# Altium footprint library PCB封装.PcbLib: 60 footprints (part 4 of 4)
Each footprint in its own frame and in the unit in brackets; x right, y up, seen from the top. Pads: shape width x height; smd on the part's side, far side on the other; paste and mask are expansions set on the pad; w line width, h text height; cw(c..) or ccw(c..) is an arc to the next point about the centre after c.
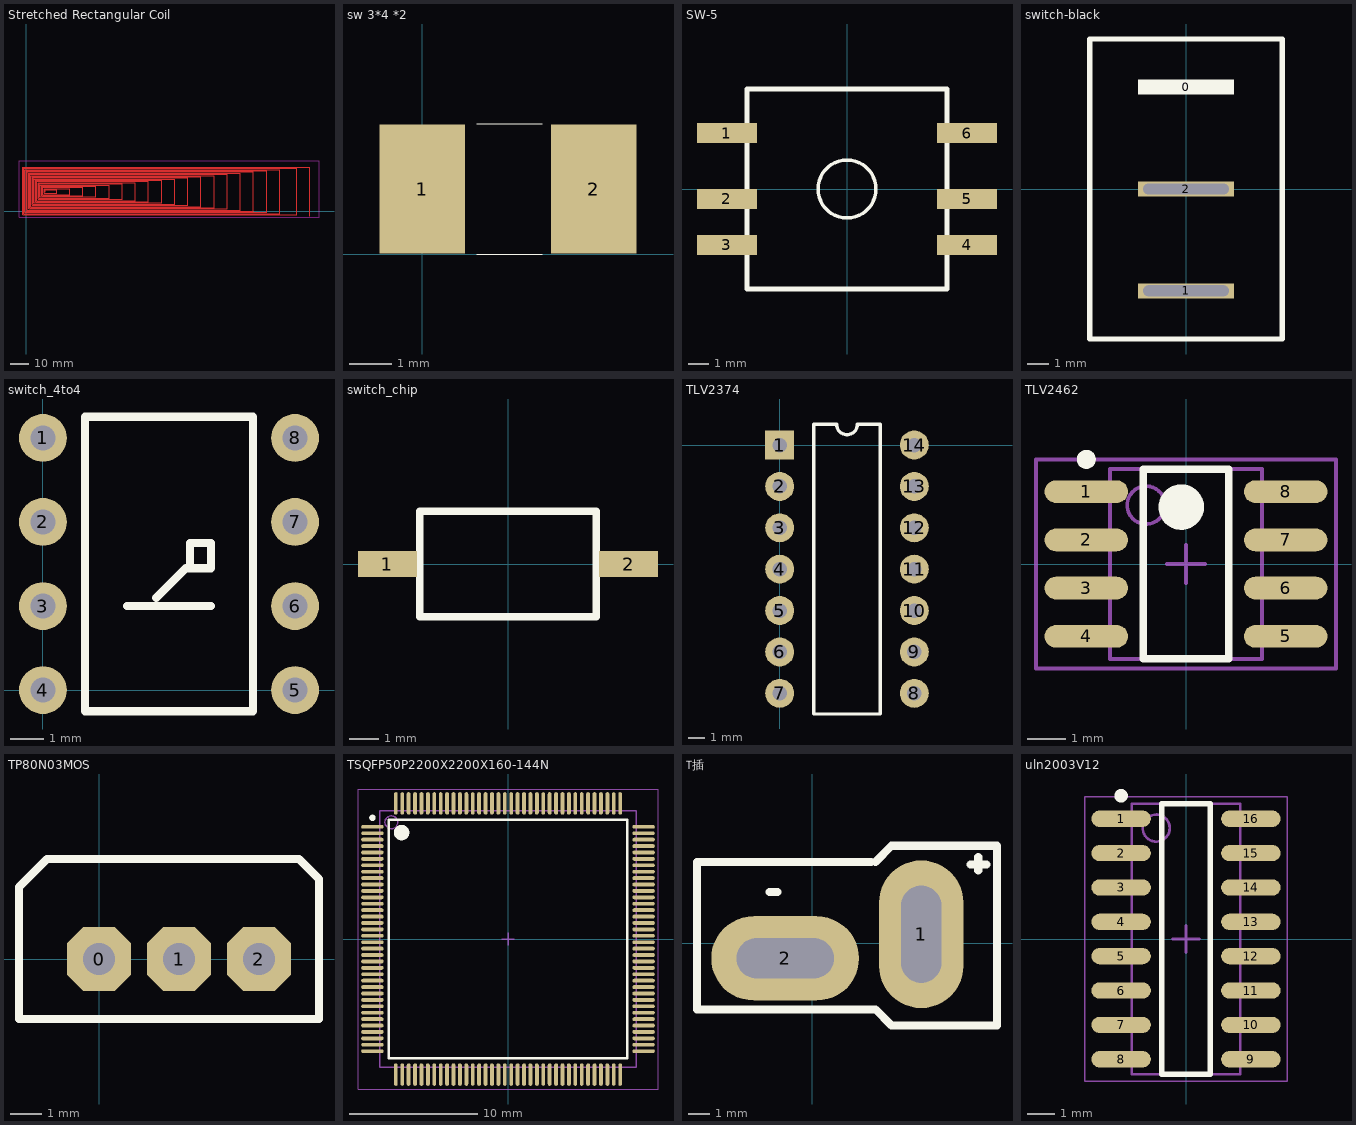
[diagram p3: the footprints below, top view; thin cyan lines are the x and y axes]

## Stretched Rectangular Coil [mm]
height 1.6
Top Layer:
  lines w0.381: 10.033,10.16 10.033,11.43 16.063,11.43 16.063,9.525 9.398,9.525 9.398,12.065 23.063,12.065 23.063,8.89 8.763,8.89 8.763,12.7 30.063,12.7 30.063,8.255 8.128,8.255 8.128,13.335 37.063,13.335 37.063,7.62 7.493,7.62 7.493,13.97 44.063,13.97 44.063,6.985 6.858,6.985 6.858,14.605 51.054,14.605 51.054,6.35 6.223,6.35 6.223,15.24 58.063,15.24 58.063,5.715 5.588,5.715 5.588,15.875 65.063,15.875 65.063,5.08 4.953,5.08 4.953,16.51 72.063,16.51 72.063,4.445 4.318,4.445 4.318,17.145 79.063,17.145 79.063,3.81 3.683,3.81 3.683,17.78 86.063,17.78 86.063,3.175 3.048,3.175 3.048,18.415 93.063,18.415 93.063,2.54 2.413,2.54 2.413,19.05 100.063,19.05 100.063,1.905 1.778,1.905 1.778,19.685 107.061,19.685 107.061,1.27 1.143,1.27 1.143,20.32 114.063,20.32 114.063,0.635 0.508,0.635 0.508,20.955 121.063,20.955 121.063,0 -0.127,0 -0.127,21.59 128.063,21.59 128.063,-0.635 -0.762,-0.635 -0.762,22.225 135.063,22.225 135.063,-1.27 -1.397,-1.27 -1.397,22.86 144.063,22.86 144.063,-1.905 -2.032,-1.905 -2.032,23.495 151.063,23.495 151.063,-2.667
Keep-Out Layer:
  lines w0.381: -3.937,26.825 -3.937,-3.175 156.063,-3.175 156.063,26.924 -3.937,26.924

## sw 3*4 *2 [mm]
height 2
pads (2):
  rect 2x3 smd: 1(0,1.524) 2(4,1.524)
Top Overlay:
  lines w0.025: 1.27,0 2.794,0 ; 1.27,3.048 2.794,3.048

## SW-5 [mm]
height 8
pads (6):
  rect 3x1 smd: 1(-6,2.8) 2(-6,-0.5) 3(-6,-2.8) 4(6,-2.8) 5(6,-0.5) 6(6,2.8)
Top Overlay:
  circle w0.178: c0,0 r1.448
  lines w0.254: -5,-5 -5,5 5,5 5,-5 -5,-5

## switch-black [mm]
height 20
pads (3):
  rect 4.5x0.7 on Top Overlay: 0(0,4.75)
  rect 4.5x0.7 hole 0.5 slot 4 at 0 deg: 1(0,-4.75) 2(0,0)
Top Overlay:
  lines w0.254: -4.5,-7 -4.5,7 4.5,7 4.5,-7 -4.5,-7

## switch_4to4 [mil]
height 200
pads (8):
  round 57 hole 30: 1(0,300) 2(0,200) 3(0,100) 4(0,0) 5(300,0) 6(300,100) 7(300,200) 8(300,300)
Top Overlay:
  lines w10: 100,100 200,100 ; 135,110 170,145 175,145 ; 175,145 175,175 200,175 200,145 175,145 ; 50,-25 50,325 250,325 250,-25 50,-25

## switch_chip [mm]
height 5
pads (2):
  rect 2x0.9 smd: 1(-4.1,0) 2(4.1,0)
Top Overlay:
  lines w0.254: -3,-1.8 -3,1.8 3,1.8 3,-1.8 -3,-1.8

## TLV2374 [mil]
pads (14):
  rect 70x70 hole 35: 1(0,0)
  round 70 hole 35: 2(0,-100) 3(0,-200) 4(0,-300) 5(0,-400) 6(0,-500) 7(0,-600) 8(325.2,-600) 9(325.2,-500) 10(325.2,-400) 11(325.2,-300) 12(325.2,-200) 13(325.2,-100) 14(325.2,0)
Top Overlay:
  lines w7.87: 82.09,-650 82.09,50 137.6,50 ccw(c162.6,50) 187.6,50 243.11,50 243.11,-650 82.09,-650

## TLV2462 [mm]
pads (8):
  oval 2.2x0.6 smd: 1(-2.625,1.905) 2(-2.625,0.635) 3(-2.625,-0.635) 4(-2.625,-1.905) 5(2.625,-1.905) 6(2.625,-0.635) 7(2.625,0.635) 8(2.625,1.905)
Top Overlay:
  circle w0.6: c-0.125,1.5 r0.3
  circle w0.25: c-2.625,2.755 r0.125
  lines w0.2: -1.125,-2.5 1.125,-2.5 1.125,2.5 -1.125,2.5 -1.125,-2.5
Mechanical 13:
  circle w0.1: c-1.05,1.55 r0.5
  lines w0.1: -2,-2.5 2,-2.5 2,2.5 -2,2.5 -2,-2.5
Mechanical 15:
  lines w0.1: -0.5,0 0.5,0 ; 0,-0.5 0,0.5 ; -3.95,-2.75 3.95,-2.75 3.95,2.75 -3.95,2.75 -3.95,-2.75
3D body: height 1.75, standoff 0.25, extent -2,-2.5 2,2.5

## TP80N03MOS [mil]
pads (3):
  oct 80x80 hole 40: 0(0,0) 1(100,0) 2(200,0)
Top Overlay:
  lines w10: -100,-75 -100,75 -100,90 -65,125 250,125 275,100 275,-75 -100,-75

## TSQFP50P2200X2200X160-144N [mm] "TSQFP, 144-Leads, Body 20.00x20.00mm, Pitch 0.50mm, IPC Medium Density"
height 1.6
pads (144):
  oval 1.75x0.3 smd: 1(-10.575,8.75) 2(-10.575,8.25) 3(-10.575,7.75) 4(-10.575,7.25) 5(-10.575,6.75) 6(-10.575,6.25) 7(-10.575,5.75) 8(-10.575,5.25) 9(-10.575,4.75) 10(-10.575,4.25) 11(-10.575,3.75) 12(-10.575,3.25) 13(-10.575,2.75) 14(-10.575,2.25) 15(-10.575,1.75) 16(-10.575,1.25) 17(-10.575,0.75) 18(-10.575,0.25) 19(-10.575,-0.25) 20(-10.575,-0.75) 21(-10.575,-1.25) 22(-10.575,-1.75) 23(-10.575,-2.25) 24(-10.575,-2.75) 25(-10.575,-3.25) 26(-10.575,-3.75) 27(-10.575,-4.25) 28(-10.575,-4.75) 29(-10.575,-5.25) 30(-10.575,-5.75) 31(-10.575,-6.25) 32(-10.575,-6.75) 33(-10.575,-7.25) 34(-10.575,-7.75) 35(-10.575,-8.25) 36(-10.575,-8.75) 73(10.575,-8.75) 74(10.575,-8.25) 75(10.575,-7.75) 76(10.575,-7.25) 77(10.575,-6.75) 78(10.575,-6.25) 79(10.575,-5.75) 80(10.575,-5.25) 81(10.575,-4.75) 82(10.575,-4.25) 83(10.575,-3.75) 84(10.575,-3.25) 85(10.575,-2.75) 86(10.575,-2.25) 87(10.575,-1.75) 88(10.575,-1.25) 89(10.575,-0.75) 90(10.575,-0.25) 91(10.575,0.25) 92(10.575,0.75) 93(10.575,1.25) 94(10.575,1.75) 95(10.575,2.25) 96(10.575,2.75) 97(10.575,3.25) 98(10.575,3.75) 99(10.575,4.25) 100(10.575,4.75) 101(10.575,5.25) 102(10.575,5.75) 103(10.575,6.25) 104(10.575,6.75) 105(10.575,7.25) 106(10.575,7.75) 107(10.575,8.25) 108(10.575,8.75)
  oval 0.3x1.75 smd: 37(-8.75,-10.575) 38(-8.25,-10.575) 39(-7.75,-10.575) 40(-7.25,-10.575) 41(-6.75,-10.575) 42(-6.25,-10.575) 43(-5.75,-10.575) 44(-5.25,-10.575) 45(-4.75,-10.575) 46(-4.25,-10.575) 47(-3.75,-10.575) 48(-3.25,-10.575) 49(-2.75,-10.575) 50(-2.25,-10.575) 51(-1.75,-10.575) 52(-1.25,-10.575) 53(-0.75,-10.575) 54(-0.25,-10.575) 55(0.25,-10.575) 56(0.75,-10.575) 57(1.25,-10.575) 58(1.75,-10.575) 59(2.25,-10.575) 60(2.75,-10.575) 61(3.25,-10.575) 62(3.75,-10.575) 63(4.25,-10.575) 64(4.75,-10.575) 65(5.25,-10.575) 66(5.75,-10.575) 67(6.25,-10.575) 68(6.75,-10.575) 69(7.25,-10.575) 70(7.75,-10.575) 71(8.25,-10.575) 72(8.75,-10.575) 109(8.75,10.575) 110(8.25,10.575) 111(7.75,10.575) 112(7.25,10.575) 113(6.75,10.575) 114(6.25,10.575) 115(5.75,10.575) 116(5.25,10.575) 117(4.75,10.575) 118(4.25,10.575) 119(3.75,10.575) 120(3.25,10.575) 121(2.75,10.575) 122(2.25,10.575) 123(1.75,10.575) 124(1.25,10.575) 125(0.75,10.575) 126(0.25,10.575) 127(-0.25,10.575) 128(-0.75,10.575) 129(-1.25,10.575) 130(-1.75,10.575) 131(-2.25,10.575) 132(-2.75,10.575) 133(-3.25,10.575) 134(-3.75,10.575) 135(-4.25,10.575) 136(-4.75,10.575) 137(-5.25,10.575) 138(-5.75,10.575) 139(-6.25,10.575) 140(-6.75,10.575) 141(-7.25,10.575) 142(-7.75,10.575) 143(-8.25,10.575) 144(-8.75,10.575)
Top Overlay:
  circle w0.6: c-8.3,8.3 r0.3
  circle w0.25: c-10.575,9.45 r0.125
  lines w0.2: -9.3,-9.3 9.3,-9.3 9.3,9.3 -9.3,9.3 -9.3,-9.3
Mechanical 13:
  circle w0.1: c-9.1,9.1 r0.5
  lines w0.1: -10,-10 10,-10 10,10 -10,10 -10,-10
Mechanical 15:
  lines w0.05: -11.7,-11.7 11.7,-11.7 11.7,11.7 -11.7,11.7 -11.7,-11.7
  lines w0.1: -0.5,0 0.5,0 ; 0,-0.5 0,0.5
3D body: height 1.6, standoff 0.05, extent -10,-10 10,10

## T插 [mm]
height 5
pads (2):
  oval 4x7 hole 1.9 slot 4.6 at 90 deg: 1(5.161,0.416)
  oval 7x4 hole 1.9 slot 4.6 at 0 deg: 2(-1.283,-0.727)
Top Overlay:
  lines w0.381: -2.032,2.413 -1.651,2.413 ; 2.781,3.845 2.146,3.845 -5.461,3.845 -5.461,-3.14 2.146,-3.14 2.781,-3.14 2.988,-3.14 3.75,-3.902 8.75,-3.902 ; 2.988,3.845 3.75,4.607 8.75,4.607 8.75,-3.893 ; 7.493,3.718 8.255,3.718 ; 7.861,3.429 7.861,4.064

## uln2003V12 [mm] "SOIC, 16-Leads, Body 9.90x3.90mm, Pitch 1.27mm, IPC Medium Density"
height 1.75
pads (16):
  oval 2.2x0.6 smd: 1(-2.4,4.445) 2(-2.4,3.175) 3(-2.4,1.905) 4(-2.4,0.635) 5(-2.4,-0.635) 6(-2.4,-1.905) 7(-2.4,-3.175) 8(-2.4,-4.445) 9(2.4,-4.445) 10(2.4,-3.175) 11(2.4,-1.905) 12(2.4,-0.635) 13(2.4,0.635) 14(2.4,1.905) 15(2.4,3.175) 16(2.4,4.445)
Top Overlay:
  circle w0.25: c-2.4,5.295 r0.125
  lines w0.2: -0.9,-5 -0.9,5 0.9,5 0.9,-5 -0.9,-5
Mechanical 13:
  circle w0.1: c-1.1,4.1 r0.5
  lines w0.1: -2,-5 -2,5 2,5 2,-5 -2,-5
Mechanical 15:
  lines w0.05: -3.75,-5.25 -3.75,5.25 3.75,5.25 3.75,-5.25 -3.75,-5.25
  lines w0.1: -0.5,0 0.5,0 ; 0,-0.5 0,0.5
3D body: height 1.75, standoff 0.25, extent -2,-5 2,5